# Altium footprint library SMD SOD.PcbLib: 4 footprints
Each footprint in its own frame and in the unit in brackets; x right, y up, seen from the top. Pads: shape width x height; smd on the part's side, far side on the other; paste and mask are expansions set on the pad; w line width, h text height; cw(c..) or ccw(c..) is an arc to the next point about the centre after c.
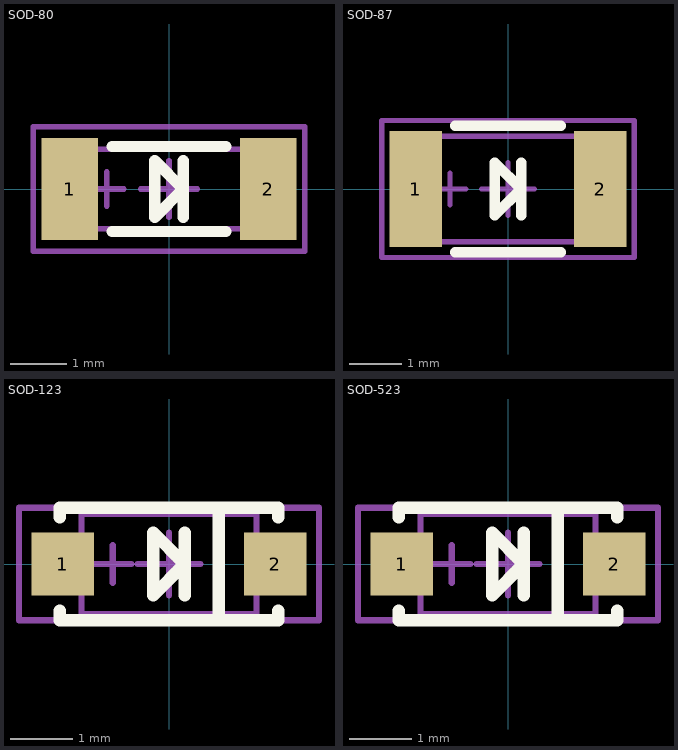
[diagram p0: the footprints below, top view; thin cyan lines are the x and y axes]

## SOD-80 [mm]
height 2
pads (2):
  rect 1x1.8 smd: 1(-1.75,0) 2(1.75,0)
Top Overlay:
  lines w0.2: -1,-0.75 1,-0.75 ; -1,0.75 1,0.75 ; 0.25,-0.5 0.25,0.5 ; -0.25,-0.5 0.25,0 -0.25,0.5 -0.25,-0.5
Mechanical 7:
  lines w0.05: -2.4,-1.1 2.4,-1.1 2.4,1.1 -2.4,1.1 -2.4,-1.1
  text ".Designator" at -2,-0.5 h1.5
Mechanical 13:
  lines w0.1: -1.4,0 -0.8,0 ; -1.1,-0.3 -1.1,0.3 ; -1.7,-0.7 1.7,-0.7 1.7,0.7 -1.7,0.7 -1.7,-0.7
Mechanical 15:
  lines w0.1: -0.5,0 0.5,0 ; 0,-0.5 0,0.5 ; -2.4,-1.1 2.4,-1.1 2.4,1.1 -2.4,1.1 -2.4,-1.1
3D body "User Library-SOD80-2.step": height 1.52, standoff -0.02, extent -1.676,-0.739 1.676,0.8

## SOD-87 [mm]
height 2
pads (2):
  rect 1x2.2 smd: 1(-1.75,0) 2(1.75,0)
Top Overlay:
  lines w0.2: -1,-1.2 1,-1.2 ; -1,1.2 1,1.2 ; 0.25,-0.5 0.25,0.5 ; -0.25,-0.5 -0.25,0.5 0.25,0 -0.25,-0.5
Mechanical 7:
  lines w0.05: -2.4,-1.3 -2.4,1.3 2.4,1.3 2.4,-1.3 -2.4,-1.3
  text ".Designator" at -2,-0.5 h1.5
Mechanical 13:
  lines w0.1: -1.4,0 -0.8,0 ; -1.1,-0.3 -1.1,0.3 ; -1.8,-1 -1.8,1 1.8,1 1.8,-1 -1.8,-1
Mechanical 15:
  lines w0.1: -0.5,0 0.5,0 ; 0,-0.5 0,0.5 ; -2.4,-1.3 -2.4,1.3 2.4,1.3 2.4,-1.3 -2.4,-1.3
3D body "User Library-SOD-87.step": height 2, standoff 0, extent -1.75,-1 1.75,1

## SOD-123 [mm] "誓-36"
height 2
pads (2):
  rect 1x1 smd: 1(-1.7,0) 2(1.7,0)
Top Overlay:
  lines w0.2: -1.75,-0.75 -1.75,-0.9 1.75,-0.9 1.75,-0.75 ; -1.75,0.75 -1.75,0.9 1.75,0.9 1.75,0.75 ; 0.25,-0.5 0.25,0.5 ; 0.8,-0.9 0.8,0.9 ; -0.25,-0.5 -0.25,0.5 0.25,0 -0.25,-0.5
Mechanical 7:
  lines w0.05: -2.4,-0.9 2.4,-0.9 2.4,0.9 -2.4,0.9 -2.4,-0.9
  text ".Designator" at -1.75,-0.5 h1.5
Mechanical 13:
  lines w0.1: -1.4,-0.4 -1.9,-0.4 -1.9,0.4 -1.4,0.4 ; -1.2,0 -0.6,0 ; -0.9,-0.3 -0.9,0.3 ; 1.4,-0.4 1.9,-0.4 1.9,0.4 1.4,0.4 ; -1.4,-0.8 1.4,-0.8 1.4,0.8 -1.4,0.8 -1.4,-0.8
Mechanical 15:
  lines w0.1: -0.5,0 0.5,0 ; 0,-0.5 0,0.5 ; -2.4,-0.9 2.4,-0.9 2.4,0.9 -2.4,0.9 -2.4,-0.9
3D body "User Library-SOD123-1.step": height 1.19, standoff 0.01, extent -1.95,-0.9 1.95,0.9

## SOD-523 [mm]
height 2
pads (2):
  rect 1x1 smd: 1(-1.7,0) 2(1.7,0)
Top Overlay:
  lines w0.2: -1.75,-0.75 -1.75,-0.9 1.75,-0.9 1.75,-0.75 ; -1.75,0.75 -1.75,0.9 1.75,0.9 1.75,0.75 ; 0.25,-0.5 0.25,0.5 ; 0.8,-0.9 0.8,0.9 ; -0.25,-0.5 -0.25,0.5 0.25,0 -0.25,-0.5
Mechanical 7:
  lines w0.05: -2.4,-0.9 2.4,-0.9 2.4,0.9 -2.4,0.9 -2.4,-0.9
  text ".Designator" at -1.75,-0.5 h1.5
Mechanical 13:
  lines w0.1: -1.4,-0.4 -1.9,-0.4 -1.9,0.4 -1.4,0.4 ; -1.2,0 -0.6,0 ; -0.9,-0.3 -0.9,0.3 ; 1.4,-0.4 1.9,-0.4 1.9,0.4 1.4,0.4 ; -1.4,-0.8 1.4,-0.8 1.4,0.8 -1.4,0.8 -1.4,-0.8
Mechanical 15:
  lines w0.1: -0.5,0 0.5,0 ; 0,-0.5 0,0.5 ; -2.4,-0.9 2.4,-0.9 2.4,0.9 -2.4,0.9 -2.4,-0.9
3D body "User Library-SOD123-1.step": height 1.19, standoff 0.01, extent -1.95,-0.9 1.95,0.9